# Altium schematic symbol library aiskylab-14Connectors-03USBConnectors.SchLib: 18 symbols
Pins are listed as number, name and electrical type; pins without a type are passive.

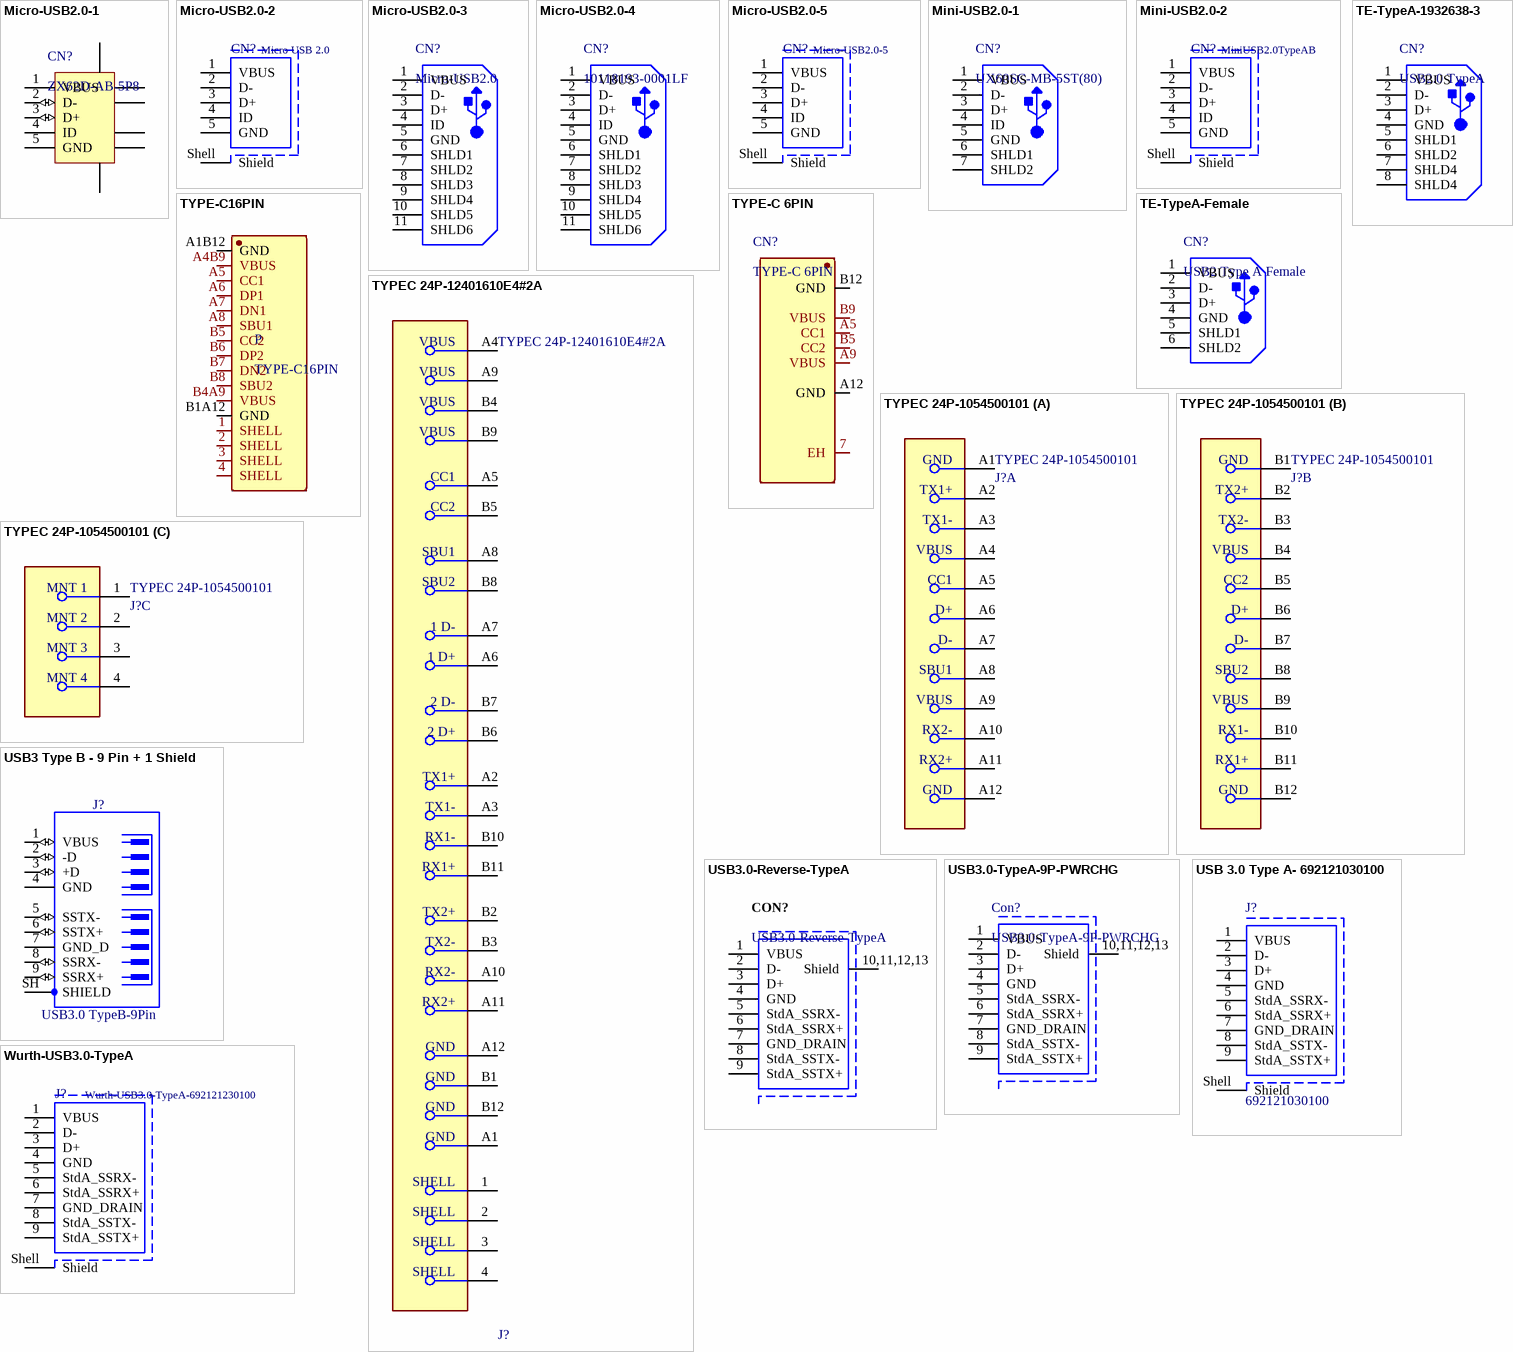
[diagram p0: symbols Micro-USB2.0-1 to Wurth-USB3.0-TypeA]

## Micro-USB2.0-1
designator CN?, comment ZX62D-AB-5P8
USB 2.0 Standard Micro-USB Connector, Micro AB-Standard (Bottom Mount), 30 V AC, -30 to 85 degC, Right Angle, 5-Pin 7.5 x 5.6 x 2.8 mm SMD, RoHS, Reel; Manufacturer: Hirose Electric; Number of Contacts: 5; Capacitance: 2 pF Max.; Voltage Rating: 30 V AC; Contact Resistance: 30 mOhm Max.; PartNumber: ZX62D-AB-5P8; Mounting Technology: Surface Mount; ComponentLink1URL: http://www.hirose.com/; ComponentLink2URL: http://www.hirose.co.jp/cataloge_hp/ed_ZX_20140804.pdf; ComponentLink1Description: Manufacturer URL; ComponentLink3Description: Package Specification; Operating Temperature Range: -30 to 85 degC; RoHS: TRUE; DatasheetVersion: Aug-14; PackageDescription: USB Micro-AB Connector, Right Angle, Body 7.5 x 5.6 mm, Pitch 0.65 mm, Height 2.8 mm; ComponentLink3URL: http://www.hirose.co.jp/cataloge_hp/ed_ZX_20140804.pdf; Packing: Reel; ComponentLink2Description: Datasheet
footprint HIRO-ZX62D-AB-5P8_V (USB Micro-AB Connector, 5-Leads, Pitch 0.65mm)
pins: 1 VBUS (power), 2 D- (io), 3 D+ (io), 4 ID, 5 GND (power), 6 SHLD, 7 SHLD, 8 SHLD, 9 SHLD, 10 SHLD, 11 SHLD

## Micro-USB2.0-2
designator CN?, comment Micro USB 2.0
Micro USB 2.0 Type AB Receptacle WR-COM, Horizontal, SMT; Part Number: 629105150921; Manufacturer: Wurth Elektronik; Rated Current: 1.8A; Contact Resistance: 30mOhm; Working Voltage: 30VAC; Publisher: WurthElektronik; Operating Temperature: -40to85degC; Gender: Receptacle; Packaging: TapeandReel; Connector Type: MicroUSB2.0TypeAB; Datasheet URL: https://katalog.we-online.de/em/datasheet/629105150921.pdf; Mounting Technology: SMT; Orientation: Horizontal; Package Reference: 629105150921; Manufacturer URL: http://www.we-online.de
footprint microUSB2_AB_H (Micro USB 2.0 Type AB Horizontal)
pins: 1 VBUS, 2 D-, 3 D+, 4 ID, 5 GND, Shell Shield

## Micro-USB2.0-3
designator CN?, comment Micro-USB2.0
Micro USB Receptacle Standard Type B Assy, 5-Pin SMD, RoHS, Tape and Reel; Manufacturer: TE Connectivity; Body Orientation: RightAngle; Number of Ports: 1Port; Number of Contacts: 5POS; Gender: RCP; Voltage Rating Max: 30VAC; Product Depth (mm): 5.6mm; Pitch (mm): 0.65mm; Current Rating (Max): 1/ContactA; Product Length (mm): 8mm; Product Height (mm): 3mm; Operating Temperature Max Deg. C: 85C; Datasheet URL: http://www.mouser.com/ds/2/418/NG_CD_1981568_E2-621296.pdf; Termination Method: Solder; Number of Terminals: 5; Operating Temp Range: -55Cto85C; Mounting Style: SurfaceMount; Manufacturer URL: http://www.te.com/; Contact Material: CopperAlloy; Packaging: TapeandReel; Datasheet Version: Rev. E2, 08/2015; Operating Temperature Min Deg. C: -55C; Housing Material: Thermoplastic; Type: MicroUSB; Contact Plating: GoldOverNickel
footprint TECO-1981568-5_V (SMD, 5-Leads, Body 8x5.9mm, Pitch 0.65mm)
pins: 1 VBUS, 2 D-, 3 D+, 4 ID, 5 GND, 6 SHLD1, 7 SHLD2, 8 SHLD3, 9 SHLD4, 10 SHLD5, 11 SHLD6

## Micro-USB2.0-4
designator CN?, comment 10118193-0001LF
Micro USB B Type Receptacle, -55 to 85 degC, 5-Pin SMD, RoHS, Tape and Reel; Manufacturer: FCI; Insulation Resistance: 1000MOhms; Gender: Female; Current Rating: 1.8A; Number of Contacts: 5Contact; Connector Type: MicroUSBTypeBreceptacle; Mounting Angle: Right; Datasheet Version: Rev. C, 05/2015; Packaging: Reel; Product Category: USBConnectors; Standard: USB2.0; Factory Pack Quantity: 1200; Operating Temperature Range: -55Cto+85C; Termination Style: SMD/SMT; Datasheet URL: http://datasheet.octopart.com/10118193-0001LF-FCI-datasheet-55953155.pdf; Contact Material: CopperAlloy; RoHS: Details; Contact Plating: Gold; Flammability Rating: UL94V-0; Manufacturer URL: http://www.fci.com/; Brand: FCI; Product: MicroUSBTypeBConnectors; Color: Black
footprint FCI-10118193-0001LF-5_V (Micro, USB-B, 5-Leads, Body 7.86x5.05mm, Pitch 0.65 mm)
pins: 1 VBUS, 2 D-, 3 D+, 4 ID, 5 GND, 6 SHLD1, 7 SHLD2, 8 SHLD3, 9 SHLD4, 10 SHLD5, 11 SHLD6

## Micro-USB2.0-5
designator CN?
Micro USB 2.0 Type B Receptacle WR-COM, Horizontal, SMT, with Pads and Pegs; Part Number: 629105136821; Manufacturer: Wurth Elektronik; Contact Resistance: 30mOhm; Rated Current: 1A; Working Voltage: 30VAC; Datasheet URL: https://katalog.we-online.de/em/datasheet/629105136821.pdf; Mounting Technology: SMT; Publisher: WurthElektronik; Package Reference: 629105136821; Orientation: Horizontal; Packaging: TapeandReel; Manufacturer URL: http://www.we-online.de; Connector Type: MicroUSB2.0TypeB; Gender: Receptacle; Operating Temperature: -40to105degC
footprint Micro-USB2.0-5 (Micro USB 2.0 SMT Type B Horizontal 5 Contacts)
pins: 1 VBUS, 2 D-, 3 D+, 4 ID, 5 GND, Shell Shield

## Mini-USB2.0-1
designator CN?, comment UX60SC-MB-5ST(80)
Mini-B Connector, SMT Mount Receptacle Meeting Requirement of USB 2.0 Standard, 5 V, 1 A, -30 to 75 degC, 5-Pin SMD, RoHS, Tape and Reel; Manufacturer: Hirose Electric; Product Length (mm): 7.7mm; Voltage Rating Max: 5VAC; Number of Contacts: 5POS; Number of Ports: 1Port; Product Height (mm): 3.95mm; Product Depth (mm): 7mm; Pitch (mm): 0.8mm; Gender: RCP; Current Rating (Max): 1A; DELETED: Compliant; Product Diameter (mm): NotRequiredmm; Body Orientation: RightAngle; Operating Temp Range: -30Cto75C; Packaging: TapeandReel; Termination Method: Solder; Number of Terminals: 5; Package Description: 5-Pin Surface Mount Device, Body 7.7 x 7 mm, Pitch 0.8 mm; Mounting Technology: SurfaceMount; Contact Material: CopperAlloy; Package Reference: UX60SC-MB-5ST(80); Operating Temperature Min Deg. C: -30C; Housing Material: Synthetic; Operating Temperature Max Deg. C: 75C; Manufacturer URL: https://www.hirose.com; Datasheet Version: 04/2008; Type: Mini-USB; Datasheet URL: https://datasheet.ciiva.com/4598/e24000153-34949-4598883.pdf; Contact Plating: Gold; Mounting Style: ThroughHole
footprint HIRO-UX60SC-MB-5ST(80)_V (SMD, 5-Leads, Body 7.7x7mm, Pitch 0.8mm)
pins: 1 VBUS, 2 D-, 3 D+, 4 ID, 5 GND, 6 SHLD1, 7 SHLD2

## Mini-USB2.0-2
designator CN?, comment MiniUSB2.0TypeAB
Mini USB 2.0 Type AB Receptacle WR-COM, Horizontal, SMT, with Pads; Manufacturer: Wurth Elektronik; Part Number: 651305142821; Rated Current: 1A; Contact Resistance: 20mOhm; Working Voltage: 30VAC; Publisher: WurthElektronik; Connector Type: MiniUSB2.0TypeAB; Manufacturer URL: http://www.we-online.de; Packaging: TapeandReel; Gender: Receptacle; Package Reference: 651305142821; Datasheet URL: https://katalog.we-online.de/em/datasheet/651305142821.pdf; Operating Temperature: -40to105degC; Mounting Technology: SMT; Orientation: Horizontal
footprint 651305142821 (Mini USB 2.0 Type AB SMT Horizontal 5 Contacts)
pins: 1 VBUS, 2 D-, 3 D+, 4 ID, 5 GND, Shell Shield

## TE-TypeA-1932638-3
designator CN?, comment USB2.0 TypeA
Conn USB RCP 4 POS Solder RA SMD 4 Terminal 1 Port T/R; Manufacturer: TE Connectivity; Manufacturer Part Number: 1932638-3; Plating: Matte,Tin; Connector Type: Receptacle; Number of Contacts: 4; Number of Ports: 1; Contact Current Rating: 1A; Circuit Application: Signal; Connector System: Cable-to-Board; Pitch: 2.5mm; PCB Thickness: 1.2mm; Supplier 1: Digi-Key; RoHS: Yes; Category: Connectors; Stock 1: 11754; Pricing 1: 1=1.52000, 10=1.38100, 25=1.29640, 50=1.24000, 100=1.18370 (USD); Mount: Surface Mount,Horizontal; Case/Package: SMD/SMT; Contact Plating: Gold; Housing Color: Black; Housing Material: Polymer; Min Operating Temperature: -67°C; Max Operating Temperature: 185°C; Gender: Receptacle; Package Quantity: 350; Packaging: Tape and Reel; Termination: SMD/SMT; Orientation: Right Angle; Number of Positions: 4; ELV: Compliant; ComponentLink1URL: http://www.te.com/commerce/DocumentDelivery/DDEController?Action=srchrtrv&DocNm=1932638&DocType=Customer+Drawing&DocLang=English&src-supplier=Digi-Key; ComponentLink1Description: http://www.te.com/commerce/DocumentDelivery/DDEController?Action=srchrtrv&DocNm=1932638&DocType=Customer+Drawing&DocLang=English&src-supplier=Digi-Key; ComponentLink2URL: https://www.te.com/commerce/DocumentDelivery/DDEController?Action=srchrtrv&DocNm=501-60007-1&DocType=SS&DocLang=EN&src-supplier=Digi-Key; ComponentLink2Description: https://www.te.com/commerce/DocumentDelivery/DDEController?Action=srchrtrv&DocNm=501-60007-1&DocType=SS&DocLang=EN&src-supplier=Digi-Key; Supplier Part Number 1: A117902CT-ND
footprint TE-1932638-3
pins: 1 VBUS, 2 D-, 3 D+, 4 GND, 5 SHLD1, 6 SHLD2, 7 SHLD4, 8 SHLD4

## TE-TypeA-Female
designator CN?, comment USB2 Type A Female
1 Port Right Angle Through Hole Mount Female Type A USB Connector, 4 Position, -55 to 85 degC, RoHS, Tube; Manufacturer: TE Connectivity; Contact Termination Type: Solder; No. of Contacts: 4; Connector Mounting: PCB; SVHC: NoSVHC(16-Jun-2014); Gender: Receptacle; Connector Type: USBA; Package Description: 4-Pin Through Hole Device, Body 14 x 13.13 mm, Pitch 2.5 mm; Contact Plating: Gold; Package Reference: 292303-1; Contact Material: Copper; Datasheet URL: http://www.farnell.com/cad/1653030.pdf; Datasheet Version: Feb-12; Manufacturer URL: http://www.te.com/
footprint TE-292303-1_V (THD, 4-Leads, Body 13.13x14mm, Pitch 2.5mm)
pins: 1 VBUS, 2 D-, 3 D+, 4 GND, 5 SHLD1, 6 SHLD2

## TYPE-C16PIN
designator P
USB连接器; SuplierNumber: C393939; ComponentLink1Description: Datasheet; ComponentLink1URL: https://item.szlcsc.com/372551.html; Manufacture: http://www.so-han.com/index.html
footprint TYPE-C16PIN
pins: 1 SHELL, 2 SHELL, 3 SHELL, 4 SHELL, A1B12 GND, A4B9 VBUS, A5 CC1, A6 DP1, A7 DN1, A8 SBU1, B1A12 GND, B4A9 VBUS, B5 CC2, B6 DP2, B7 DN2, B8 SBU2

## TYPE-C 6PIN
designator CN?
只做充电用; SuplierNumber: C456012; ComponentLink1Description: Datasheet; ComponentLink1URL: https://item.szlcsc.com/458819.html; Manufacture: http://www.so-han.com/index.html
footprint Type-C 6Pin
pins: 7 EH, A5 CC1, A9 VBUS, A12 GND, B5 CC2, B9 VBUS, B12 GND

## TYPEC 24P-12401610E4#2A
designator J?
USB3.1 TYPEC 24P SMD RA; Connector Type: USB; Number of Contacts: 24; Gender: Receptacle; Packaging: Cut Tape; Mount: Surface Mount; Number of Pins: 24
footprint FP-12401610E4#2A-MFG
pins: 1 SHELL (power), 2 SHELL (power), 3 SHELL (power), 4 SHELL (power), A1 GND (power), A2 TX1+, A3 TX1-, A4 VBUS (power), A5 CC1, A6 1 D+, A7 1 D-, A8 SBU1, A9 VBUS (power), A10 RX2-, A11 RX2+, A12 GND (power), B1 GND (power), B2 TX2+, B3 TX2-, B4 VBUS (power), B5 CC2, B6 2 D+, B7 2 D-, B8 SBU2, B9 VBUS (power), B10 RX1-, B11 RX1+, B12 GND (power)

## TYPEC 24P-1054500101
designator J?
USB3.1 TYPEC 24P SMD RA; Manufacturer: Molex; Number Of Contacts: 24; Voltage Rating: 30V; Shielding: true; Is Female: yes; Current Rating: 0.25/1.25/5A; Pitch: 0.5mm; Conn Orientation: Right Angle; Package: 0; Height: 3.44mm; Footprint Url: https://www.molex.com/pdm_docs/sd/1054500101_sd.pdf; Device Class L1: Connectors; Category: Conn; Device Class L2: USB Connectors; Digikey Description: CONN RCP USB3.1 TYPEC 24P SMD RA; Contact Material: Gold,Nickel; Mouser Description: USB Shielded I/O Receptacle; Type C; Right Angle; Surface Mount; Gold over Nickel; ComponentLink2Description: Datasheet; Lead Free: Yes; Automotive: No; Temperature Range High: +85°C; RoHS: TRUE; Octopart: https://octopart.com/105450-0101-molex-68082325; ComponentLink2URL: https://www.molex.com/webdocs/datasheets/pdf/en-us/1054500101_IO_CONNECTORS.pdf; Temperature: -30°C to +85°C; Usb Standard: USB 3.1; Temperature Range Low: -30°C; Device Class L3: unset; Manufacturer Part Number: 1054500101
footprint FP-1054500101-MFG
part A pins: A1 GND, A2 TX1+, A3 TX1-, A4 VBUS, A5 CC1, A6 D+, A7 D-, A8 SBU1, A9 VBUS, A10 RX2-, A11 RX2+, A12 GND
part B pins: B1 GND, B2 TX2+, B3 TX2-, B4 VBUS, B5 CC2, B6 D+, B7 D-, B8 SBU2, B9 VBUS, B10 RX1-, B11 RX1+, B12 GND
part C pins: 1 MNT 1, 2 MNT 2, 3 MNT 3, 4 MNT 4

## USB3 Type B - 9 Pin + 1 Shield
designator J?, comment USB3.0 TypeB-9Pin
9 Pin + 1 Shield USB 3.0 Type B Receptacle
footprint SAMTEC_USB3-B-S-F-TH (Right Angle, Shielded USB 3.0 Standard B Receptacle)
pins: 1 VBUS (io), 2 -D (io), 3 +D (io), 4 GND (power), 5 SSTX- (io), 6 SSTX+ (io), 7 GND_D (power), 8 SSRX- (io), 9 SSRX+ (io), SH SHIELD (power)

## USB3.0-Reverse-TypeA
designator CON?
USB3.0反向插座
footprint USB3.0-9P-Reverse-sigatron (反向)
pins: 1 VBUS, 2 D-, 3 D+, 4 GND, 5 StdA_SSRX-, 6 StdA_SSRX+, 7 GND_DRAIN, 8 StdA_SSTX-, 9 StdA_SSTX+, 10,11,12,13 Shield

## USB3.0-TypeA-9P-PWRCHG
designator Con?
USB3.0 充电
footprint USB3.0-9P-PWRCHR (3A)
pins: 1 VBUS, 2 D-, 3 D+, 4 GND, 5 StdA_SSRX-, 6 StdA_SSRX+, 7 GND_DRAIN, 8 StdA_SSTX-, 9 StdA_SSTX+, 10,11,12,13 Shield

## USB 3.0 Type A- 692121030100
designator J?, comment 692121030100
USB 3.0 Type A Receptacle WR-COM, Horizontal, THT; Manufacturer: Wurth Elektronik; Manufacturer: Wurth Electronics; Contact Resistance: 50mOhm; Working Voltage: 30VAC; Rated Current: 0.25A; Part Number: 692121030100; Orientation: Horizontal; Publisher: WurthElektronik; Gender: Receptacle; Mounting Technology: THT; Datasheet URL: https://katalog.we-online.de/em/datasheet/692121030100.pdf; Package Reference: 692121030100; Operating Temperature: -20to85degC; Packaging: TapeandReel; Manufacturer URL: http://www.we-online.de; Connector Type: USB3.0TypeA; Manufacturer Part Number: 692121030100
footprint 692121030100 (USB 3.0 Type A Horizontal)
pins: 1 VBUS, 2 D-, 3 D+, 4 GND, 5 StdA_SSRX-, 6 StdA_SSRX+, 7 GND_DRAIN, 8 StdA_SSTX-, 9 StdA_SSTX+, Shell Shield

## Wurth-USB3.0-TypeA
designator J?, comment Wurth-USB3.0-TypeA-692121230100
USB 3.0 Type A Receptacle WR-COM, Horizontal, THT, with Clips, with 1.04 mm Offset; Manufacturer: Wurth Elektronik; Rated Current: 0.25A; Contact Resistance: 50mOhm; Working Voltage: 30VAC; Publisher: WurthElektronik; Operating Temperature: -20to85degC; Packaging: TapeandReel; Gender: Receptacle; Package Reference: 692121230100; Mounting Technology: THT; Datasheet URL: https://katalog.we-online.de/em/datasheet/692121230100.pdf; Orientation: Horizontal; Manufacturer URL: http://www.we-online.de; Connector Type: USB3.0TypeA; Part Number: 692121230100
footprint 692121230100 (USB 3.0 Type A Horizontal with Offset 1.04mm)
pins: 1 VBUS, 2 D-, 3 D+, 4 GND, 5 StdA_SSRX-, 6 StdA_SSRX+, 7 GND_DRAIN, 8 StdA_SSTX-, 9 StdA_SSTX+, Shell Shield